# EAGLE library part WE-FB_EP13_SCH1 (library WE-FB)
WE-FB Flyback Transformer suitable for LT3573/ LT3574/ LT3575/ LT3748 Characteristics Easy design-in solution Less external components needed Small board space Low cost No optocoupler needed! Long term reliability voltage control No aging Same external parts for different output voltages Easy design of custom power supply due to standard circuit and change of transformers and two components for feedback loop Isolation voltage up to 2.5 kV Applications Isolated power design Sensor interfaces Isolated telecom converters Power over Ethernet <https://www.we-online.com/catalog/media/o35283v209%20Family_we-fb_LT%20Kits_gruppe.jpg> Details see: www.we-online.com/catalog/WE-FB <www.we-online.com/catalog/WE-FB/?utm_source=eagle_model&utm_medium=description_link&utm_campaign=eisos_eagle> Updated by Ella Wu 2022-07-21 2022 Wurth Elektronik
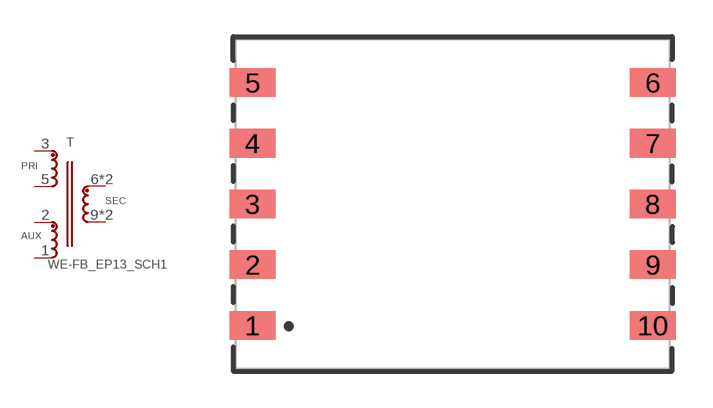
[diagram p11: symbol with the pads of WE-FB_EP13_P16.36; footprint WE-FB_EP13_P16.36]

Designator prefix T

## WE-FB_EP13_SCH1_750311422 (DATASHEET-URL: https://www.we-online.com/redexpert/spec/750311422?ae; IOUT: 4A; ISAT: 3.3A; L: 50uH; LSMIN: 0.6uH; MOUNT: SMT; N: 5:1; PART-NUMBER: 750311422; VALUE: 750311422; VIN: 36V(DC); VOUT: 5V; VT: 1500V(AC)), WE-FB_EP13_SCH1_750311423 (DATASHEET-URL: https://www.we-online.com/redexpert/spec/750311423?ae; IOUT: 4A; ISAT: 3.85A; L: 50uH; LSMIN: 0.6uH; MOUNT: SMT; N: 4:1; PART-NUMBER: 750311423; VALUE: 750311423; VIN: 36V(DC); VOUT: 5V; VT: 1500V(AC)), WE-FB_EP13_SCH1_750311424 (DATASHEET-URL: https://www.we-online.com/redexpert/spec/750311424?ae; IOUT: 1A; ISAT: 2.4A; L: 100uH; LSMIN: 0.9uH; MOUNT: SMT; N: 3:1; PART-NUMBER: 750311424; VALUE: 750311424; VIN: 36V(DC); VOUT: 12V; VT: 1500V(AC)), WE-FB_EP13_SCH1_750311439 (DATASHEET-URL: https://www.we-online.com/redexpert/spec/750311439?ae; IOUT: 2.1A; ISAT: 2.8A; L: 37uH; LSMIN: 0.75uH; MOUNT: SMT; N: 2:1; PART-NUMBER: 750311439; VALUE: 750311439; VIN: 37-57V(DC); VOUT: 12V; VT: 1500V(AC)), WE-FB_EP13_SCH1_750311456 (DATASHEET-URL: https://www.we-online.com/redexpert/spec/750311456?ae; IOUT: 1A; ISAT: 2.4A; L: 100uH; LSMIN: 0.9uH; MOUNT: SMT; N: 3:1; PART-NUMBER: 750311456; VALUE: 750311456; VIN: 36V(DC); VOUT: 12V; VT: 1500V(AC)), WE-FB_EP13_SCH1_750311457 (DATASHEET-URL: https://www.we-online.com/redexpert/spec/750311457?ae; IOUT: 4A; ISAT: 3.7A; L: 50uH; LSMIN: 0.6uH; MOUNT: SMT; N: 4:1; PART-NUMBER: 750311457; VALUE: 750311457; VIN: 36V(DC); VOUT: 5V; VT: 1500V(AC)), WE-FB_EP13_SCH1_750311458 (DATASHEET-URL: https://www.we-online.com/redexpert/spec/750311458?ae; IOUT: 4A; ISAT: 5A; L: 15uH; LSMIN: 0.175uH; MOUNT: SMT; N: 3:1; PART-NUMBER: 750311458; VALUE: 750311458; VIN: 36V(DC); VOUT: 3.3V; VT: 1500V(AC)), WE-FB_EP13_SCH1_750311486 (DATASHEET-URL: https://www.we-online.com/redexpert/spec/750311486?ae; IOUT: 0.002A; ISAT: 2A; L: 100uH; LSMIN: 4.5uH; MOUNT: SMT; N: 1:10:10; PART-NUMBER: 750311486; VALUE: 750311486; VIN: 12V(DC); VOUT: 200V/200V; VT: 1500V(AC)), WE-FB_EP13_SCH1_750311564 (DATASHEET-URL: https://www.we-online.com/redexpert/spec/750311564?ae; IOUT: 3A; ISAT: 8A; L: 9.07uH; LSMIN: 0.12uH; MOUNT: SMT; N: 3:1; PART-NUMBER: 750311564; VALUE: 750311564; VIN: 10-40V(DC); VOUT: 5V; VT: 1500V(AC)), WE-FB_EP13_SCH1_750311624 (DATASHEET-URL: https://www.we-online.com/redexpert/spec/750311624?ae; IOUT: 1A; ISAT: 8A; L: 9uH; LSMIN: 0.18uH; MOUNT: SMT; N: 1.5:1; PART-NUMBER: 750311624; VALUE: 750311624; VIN: 10-40V(DC); VOUT: 15V; VT: 1500V(AC)), WE-FB_EP13_SCH1_750311625 (DATASHEET-URL: https://www.we-online.com/redexpert/spec/750311625?ae; IOUT: 4A; ISAT: 8A; L: 9uH; LSMIN: 0.35uH; MOUNT: SMT; N: 4:1; PART-NUMBER: 750311625; VALUE: 750311625; VIN: 10-40V(DC); VOUT: 3.3V; VT: 1500V(AC)), WE-FB_EP13_SCH1_750311688 (DATASHEET-URL: https://www.we-online.com/redexpert/spec/750311688?ae; IOUT: 4A; ISAT: 3.1A; L: 50uH; LSMIN: 0.6uH; MOUNT: SMT; N: 5:1; PART-NUMBER: 750311688; VALUE: 750311688; VIN: 36V(DC); VOUT: 5V; VT: 1500V(AC)), WE-FB_EP13_SCH1_750311689 (DATASHEET-URL: https://www.we-online.com/redexpert/spec/750311689?ae; IOUT: 4A; ISAT: 3.7A; L: 50uH; LSMIN: 0.6uH; MOUNT: SMT; N: 4:1; PART-NUMBER: 750311689; VALUE: 750311689; VIN: 36V(DC); VOUT: 5V; VT: 1500V(AC))  [WE-FB_EP13_P16.36]
1  4  pas
2  3  pas
3  1  pas
5  2  pas
6  6  pas
7  6  pas
9  5  pas
10  5  pas

## Footprint WE-FB_EP13_P16.36 (pad centres in mm)
WE-FB Flyback Transformer suitable for LT3573/ LT3574/ LT3575/ LT3748 Size: EP13 SMD 10Pin ,Pitch of PAD =16.36
smd 1.88 x 1.17: 1 -8.18,-4.96; 2 -8.18,-2.48; 3 -8.18,0; 4 -8.18,2.48; 5 -8.18,4.96; 6 8.18,4.96; 7 8.18,2.48; 8 8.18,0; 9 8.18,-2.48; 10 8.18,-4.96